# Altium schematic symbol library STN1HNK60_NMOSFET.SchLib: 1 symbol
Pins are listed as number, name and electrical type; pins without a type are passive.

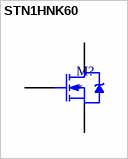
[diagram p0: symbol STN1HNK60]

## STN1HNK60
designator M?
MfrPartNo: *
pins: 1 G, 2 D, 3 S